# Altium footprint library KF-2.54 接线端子.PcbLib: 30 footprints (part 1 of 2)
Each footprint in its own frame and in the unit in brackets; x right, y up, seen from the top. Pads: shape width x height; smd on the part's side, far side on the other; paste and mask are expansions set on the pad; w line width, h text height; cw(c..) or ccw(c..) is an arc to the next point about the centre after c.
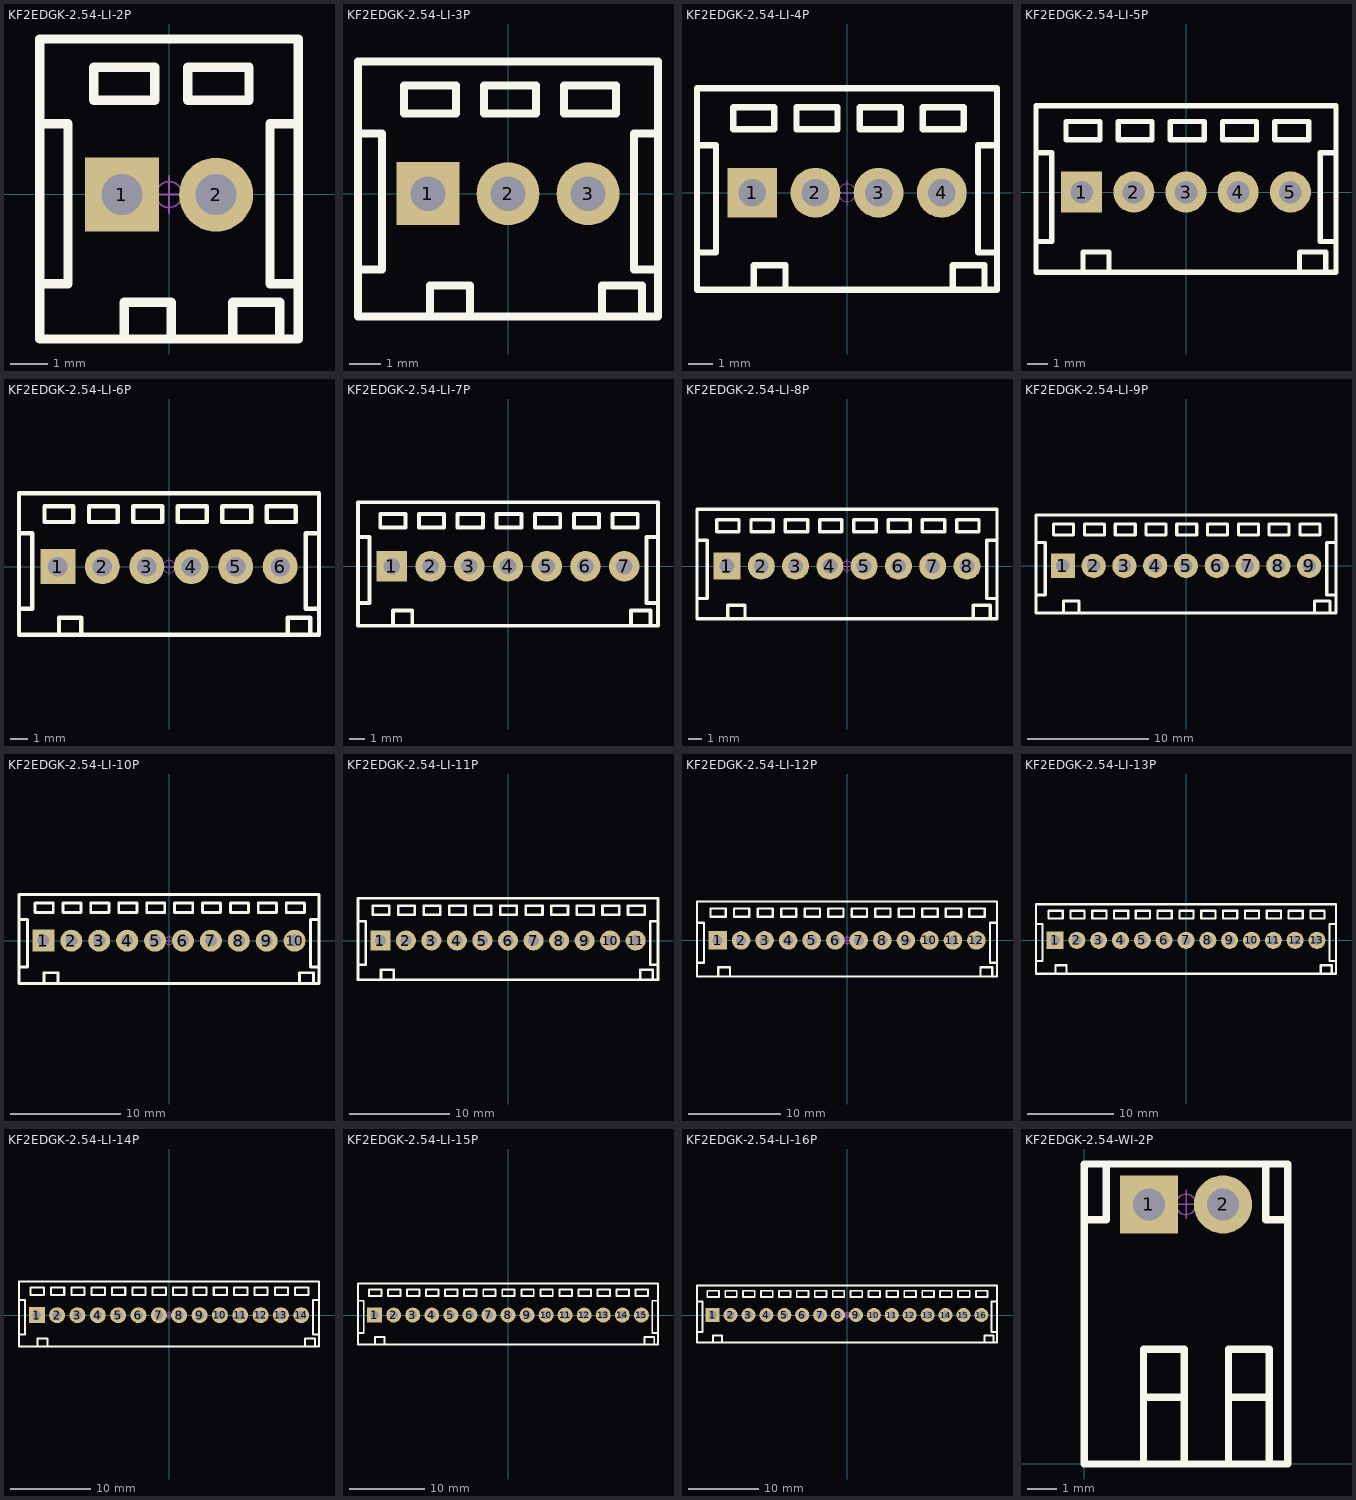
[diagram p0: the footprints below, top view; thin cyan lines are the x and y axes]

## KF2EDGK-2.54-LI-2P [mm] "长：6.93mm，宽：8.1mm，高：10.1mm"
pads (2):
  rect 2x2 hole 1.1: 1(-1.27,-0.009)
  round 2 hole 1.1: 2(1.27,-0.009)
Top Overlay:
  lines w0.254: -1.204,-3.848 -1.204,-2.921 0.066,-2.921 0.066,-3.848 ; 1.717,-3.848 1.717,-2.921 2.987,-2.921 2.987,-3.848 ; 3.49,-2.413 2.728,-2.413 2.728,1.905 3.49,1.905 ; -3.49,-2.413 -3.49,1.905 ; -3.49,-2.413 -2.728,-2.413 -2.728,1.905 -3.49,1.905 ; -3.49,-2.413 -3.49,-3.909 3.49,-3.909 3.49,1.905 ; -3.49,1.905 -3.49,4.191 3.49,4.191 3.49,1.905 ; -2.032,2.54 -2.032,3.429 -0.381,3.429 -0.381,2.54 -2.032,2.54 ; 0.508,2.54 2.159,2.54 2.159,3.429 0.508,3.429 0.508,2.54
Mechanical 15:
  circle w0.05: c0,-0.009 r0.35
  lines w0.05: -0.5,-0.009 0.5,-0.009 ; 0,-0.509 0,0.491
3D body: height 10.15, standoff -3.15, extent -3.49,-3.909 3.49,4.191

## KF2EDGK-2.54-LI-3P [mm] "长：9.52mm，宽：8.1mm，高：10.1mm"
pads (3):
  rect 2x2 hole 1.1: 1(-2.54,0)
  round 2 hole 1.1: 2(0,0) 3(2.54,0)
Top Overlay:
  lines w0.254: -2.474,-3.839 -2.474,-2.912 -1.204,-2.912 -1.204,-3.839 ; 2.987,-3.839 2.987,-2.912 4.257,-2.912 4.257,-3.839 ; 4.76,-2.404 3.998,-2.404 3.998,1.914 4.76,1.914 ; -4.76,-2.404 -4.76,1.914 ; -4.76,-2.404 -3.998,-2.404 -3.998,1.914 -4.76,1.914 ; -4.76,-2.404 -4.76,-3.9 4.76,-3.9 4.76,1.914 ; -4.76,1.914 -4.76,4.2 4.76,4.2 4.76,1.914 ; -3.302,2.549 -1.651,2.549 -1.651,3.438 -3.302,3.438 -3.302,2.549 ; -0.762,2.549 0.889,2.549 0.889,3.438 -0.762,3.438 -0.762,2.549 ; 1.778,2.549 3.429,2.549 3.429,3.438 1.778,3.438 1.778,2.549
Mechanical 15:
  circle w0.05: c0,0 r0.35
  lines w0.05: -0.5,0 0.5,0 ; 0,-0.5 0,0.5
3D body: height 10.15, standoff -3.15, extent -4.76,-3.9 4.76,4.2

## KF2EDGK-2.54-LI-4P [mm] "长：12.06mm，宽：8.1mm，高：10.1mm"
pads (4):
  rect 2x2 hole 1.1: 1(-3.81,0)
  round 2 hole 1.1: 2(-1.27,0) 3(1.27,0) 4(3.81,0)
Top Overlay:
  lines w0.254: -3.744,-3.839 -3.744,-2.912 -2.474,-2.912 -2.474,-3.839 ; 4.257,-3.839 4.257,-2.912 5.527,-2.912 5.527,-3.839 ; 6.03,-2.404 5.268,-2.404 5.268,1.914 6.03,1.914 ; -6.03,-2.404 -6.03,-3.9 6.03,-3.9 6.03,1.914 ; -6.03,-2.404 -5.268,-2.404 -5.268,1.914 -6.03,1.914 ; -6.03,-2.404 -6.03,1.914 ; -6.03,1.914 -6.03,4.2 6.03,4.2 6.03,1.914 ; -4.572,2.549 -2.921,2.549 -2.921,3.438 -4.572,3.438 -4.572,2.549 ; -2.032,2.549 -0.381,2.549 -0.381,3.438 -2.032,3.438 -2.032,2.549 ; 0.508,2.549 2.159,2.549 2.159,3.438 0.508,3.438 0.508,2.549 ; 3.048,2.549 4.699,2.549 4.699,3.438 3.048,3.438 3.048,2.549
Mechanical 15:
  circle w0.05: c0,0 r0.35
  lines w0.05: -0.5,0 0.5,0 ; 0,-0.5 0,0.5
3D body: height 10.15, standoff -3.15, extent -6.03,-3.9 6.03,4.2

## KF2EDGK-2.54-LI-5P [mm] "长：14.6mm，宽：8.1mm，高：10.1mm"
pads (5):
  rect 2x2 hole 1.1: 1(-5.08,0)
  round 2 hole 1.1: 2(-2.54,0) 3(0,0) 4(2.54,0) 5(5.08,0)
Top Overlay:
  lines w0.254: -5.014,-3.839 -5.014,-2.912 -3.744,-2.912 -3.744,-3.839 ; 5.527,-3.839 5.527,-2.912 6.797,-2.912 6.797,-3.839 ; 7.3,-2.404 6.538,-2.404 6.538,1.914 7.3,1.914 ; -7.3,-2.404 -7.3,-3.9 7.3,-3.9 7.3,1.914 ; -7.3,-2.404 -6.538,-2.404 -6.538,1.914 -7.3,1.914 ; -7.3,-2.404 -7.3,1.914 ; -7.3,1.914 -7.3,4.2 7.3,4.2 7.3,1.914 ; -5.842,2.549 -5.842,3.438 -4.191,3.438 -4.191,2.549 -5.842,2.549 ; -3.302,2.549 -3.302,3.438 -1.651,3.438 -1.651,2.549 -3.302,2.549 ; -0.762,2.549 -0.762,3.438 0.889,3.438 0.889,2.549 -0.762,2.549 ; 1.778,2.549 1.778,3.438 3.429,3.438 3.429,2.549 1.778,2.549 ; 4.318,2.549 5.969,2.549 5.969,3.438 4.318,3.438 4.318,2.549
Mechanical 15:
  circle w0.05: c0,0 r0.35
  lines w0.05: -0.5,0 0.5,0 ; 0,-0.5 0,0.5
3D body: height 10.15, standoff -3.15, extent -7.3,-3.9 7.3,4.2

## KF2EDGK-2.54-LI-6P [mm] "长：17.1mm，宽：8.1mm，高：10.1mm"
pads (6):
  rect 2x2 hole 1.1: 1(-6.35,0)
  round 2 hole 1.1: 2(-3.81,0) 3(-1.27,0) 4(1.27,0) 5(3.81,0) 6(6.35,0)
Top Overlay:
  lines w0.254: -6.284,-3.839 -6.284,-2.912 -5.014,-2.912 -5.014,-3.839 ; 6.797,-3.839 6.797,-2.912 8.067,-2.912 8.067,-3.839 ; 8.57,-2.404 7.808,-2.404 7.808,1.914 8.57,1.914 ; -8.57,-2.404 -8.57,-3.9 8.57,-3.9 8.57,1.914 ; -8.57,-2.404 -7.808,-2.404 -7.808,1.914 -8.57,1.914 ; -8.57,-2.404 -8.57,1.914 ; -8.57,1.914 -8.57,4.2 8.57,4.2 8.57,1.914 ; -7.112,2.549 -5.461,2.549 -5.461,3.438 -7.112,3.438 -7.112,2.549 ; -4.572,2.549 -2.921,2.549 -2.921,3.438 -4.572,3.438 -4.572,2.549 ; -2.032,2.549 -0.381,2.549 -0.381,3.438 -2.032,3.438 -2.032,2.549 ; 0.508,2.549 2.159,2.549 2.159,3.438 0.508,3.438 0.508,2.549 ; 3.048,2.549 3.048,3.438 4.699,3.438 4.699,2.549 3.048,2.549 ; 5.588,2.549 5.588,3.438 7.239,3.438 7.239,2.549 5.588,2.549
Mechanical 15:
  circle w0.05: c0,0 r0.35
  lines w0.05: -0.5,0 0.5,0 ; 0,-0.5 0,0.5
3D body: height 10.15, standoff -3.15, extent -8.57,-3.9 8.57,4.2

## KF2EDGK-2.54-LI-7P [mm] "长：22.22mm，宽：8.1mm，高：10.1mm"
pads (7):
  rect 2x2 hole 1.1: 1(-7.62,0)
  round 2 hole 1.1: 2(-5.08,0) 3(-2.54,0) 4(0,0) 5(2.54,0) 6(5.08,0) 7(7.62,0)
Top Overlay:
  lines w0.254: -7.554,-3.839 -7.554,-2.912 -6.284,-2.912 -6.284,-3.839 ; 8.067,-3.839 8.067,-2.912 9.337,-2.912 9.337,-3.839 ; 9.84,-2.404 9.078,-2.404 9.078,1.914 9.84,1.914 ; -9.84,-2.404 -9.84,1.914 ; -9.84,-2.404 -9.078,-2.404 -9.078,1.914 -9.84,1.914 ; -9.84,-2.404 -9.84,-3.9 9.84,-3.9 9.84,1.914 ; -9.84,1.914 -9.84,4.2 9.84,4.2 9.84,1.914 ; -8.382,2.549 -6.731,2.549 -6.731,3.438 -8.382,3.438 -8.382,2.549 ; -5.842,2.549 -4.191,2.549 -4.191,3.438 -5.842,3.438 -5.842,2.549 ; -3.302,2.549 -1.651,2.549 -1.651,3.438 -3.302,3.438 -3.302,2.549 ; -0.762,2.549 0.889,2.549 0.889,3.438 -0.762,3.438 -0.762,2.549 ; 1.778,2.549 1.778,3.438 3.429,3.438 3.429,2.549 1.778,2.549 ; 4.318,2.549 4.318,3.438 5.969,3.438 5.969,2.549 4.318,2.549 ; 6.858,2.549 6.858,3.438 8.509,3.438 8.509,2.549 6.858,2.549
Mechanical 15:
  circle w0.05: c0,0 r0.35
  lines w0.05: -0.5,0 0.5,0 ; 0,-0.5 0,0.5
3D body: height 10.15, standoff -3.15, extent -9.84,-3.9 9.84,4.2

## KF2EDGK-2.54-LI-8P [mm] "长：22.22mm，宽：8.1mm，高：10.1mm"
pads (8):
  rect 2x2 hole 1.1: 1(-8.89,0)
  round 2 hole 1.1: 2(-6.35,0) 3(-3.81,0) 4(-1.27,0) 5(1.27,0) 6(3.81,0) 7(6.35,0) 8(8.89,0)
Top Overlay:
  lines w0.254: -8.824,-3.839 -8.824,-2.912 -7.554,-2.912 -7.554,-3.839 ; 9.337,-3.839 9.337,-2.912 10.607,-2.912 10.607,-3.839 ; 11.11,-2.404 10.348,-2.404 10.348,1.914 11.11,1.914 ; -11.11,-2.404 -11.11,1.914 ; -11.11,-2.404 -10.348,-2.404 -10.348,1.914 -11.11,1.914 ; -11.11,-2.404 -11.11,-3.9 11.11,-3.9 11.11,1.914 ; -11.11,1.914 -11.11,4.2 11.11,4.2 11.11,1.914 ; -9.652,2.549 -8.001,2.549 -8.001,3.438 -9.652,3.438 -9.652,2.549 ; -7.112,2.549 -5.461,2.549 -5.461,3.438 -7.112,3.438 -7.112,2.549 ; -4.572,2.549 -2.921,2.549 -2.921,3.438 -4.572,3.438 -4.572,2.549 ; -2.032,2.549 -0.381,2.549 -0.381,3.438 -2.032,3.438 -2.032,2.549 ; 0.508,2.549 0.508,3.438 2.159,3.438 2.159,2.549 0.508,2.549 ; 3.048,2.549 4.699,2.549 4.699,3.438 3.048,3.438 3.048,2.549 ; 5.588,2.549 7.239,2.549 7.239,3.438 5.588,3.438 5.588,2.549 ; 8.128,2.549 9.779,2.549 9.779,3.438 8.128,3.438 8.128,2.549
Mechanical 15:
  circle w0.05: c0,0 r0.35
  lines w0.05: -0.5,0 0.5,0 ; 0,-0.5 0,0.5
3D body: height 10.15, standoff -3.15, extent -11.11,-3.9 11.11,4.2

## KF2EDGK-2.54-LI-9P [mm] "长：27.76mm，宽：8.1mm，高：10.1mm"
pads (9):
  rect 2x2 hole 1.1: 1(-10.16,0)
  round 2 hole 1.1: 2(-7.62,0) 3(-5.08,0) 4(-2.54,0) 5(0,0) 6(2.54,0) 7(5.08,0) 8(7.62,0) 9(10.16,0)
Top Overlay:
  lines w0.254: -10.094,-3.839 -10.094,-2.912 -8.824,-2.912 -8.824,-3.839 ; 10.607,-3.839 10.607,-2.912 11.877,-2.912 11.877,-3.839 ; 12.38,-2.404 11.618,-2.404 11.618,1.914 12.38,1.914 ; -12.38,-2.404 -12.38,-3.9 12.38,-3.9 12.38,1.914 ; -12.38,-2.404 -11.618,-2.404 -11.618,1.914 -12.38,1.914 ; -12.38,-2.404 -12.38,1.914 ; -12.38,1.914 -12.38,4.2 12.38,4.2 12.38,1.914 ; -10.922,2.549 -10.922,3.438 -9.271,3.438 -9.271,2.549 -10.922,2.549 ; -8.382,2.549 -8.382,3.438 -6.731,3.438 -6.731,2.549 -8.382,2.549 ; -5.842,2.549 -5.842,3.438 -4.191,3.438 -4.191,2.549 -5.842,2.549 ; -3.302,2.549 -3.302,3.438 -1.651,3.438 -1.651,2.549 -3.302,2.549 ; -0.762,2.549 0.889,2.549 0.889,3.438 -0.762,3.438 -0.762,2.549 ; 1.778,2.549 3.429,2.549 3.429,3.438 1.778,3.438 1.778,2.549 ; 4.318,2.549 5.969,2.549 5.969,3.438 4.318,3.438 4.318,2.549 ; 6.858,2.549 8.509,2.549 8.509,3.438 6.858,3.438 6.858,2.549 ; 9.398,2.549 11.049,2.549 11.049,3.438 9.398,3.438 9.398,2.549
Mechanical 15:
  circle w0.05: c0,0 r0.35
  lines w0.05: -0.5,0 0.5,0 ; 0,-0.5 0,0.5
3D body: height 10.15, standoff -3.15, extent -12.38,-3.9 12.38,4.2

## KF2EDGK-2.54-LI-10P [mm] "长：27.3mm，宽：8.1mm，高：10.1mm"
pads (10):
  rect 2x2 hole 1.1: 1(-11.43,0)
  round 2 hole 1.1: 2(-8.89,0) 3(-6.35,0) 4(-3.81,0) 5(-1.27,0) 6(1.27,0) 7(3.81,0) 8(6.35,0) 9(8.89,0) 10(11.43,0)
Top Overlay:
  lines w0.254: -11.364,-3.839 -11.364,-2.912 -10.094,-2.912 -10.094,-3.839 ; 11.877,-3.839 11.877,-2.912 13.147,-2.912 13.147,-3.839 ; 13.65,-2.404 12.888,-2.404 12.888,1.914 13.65,1.914 ; -13.65,-2.404 -13.65,-3.9 13.65,-3.9 13.65,1.914 ; -13.65,-2.404 -12.888,-2.404 -12.888,1.914 -13.65,1.914 ; -13.65,-2.404 -13.65,1.914 ; -13.65,1.914 -13.65,4.2 13.65,4.2 13.65,1.914 ; -12.192,2.549 -12.192,3.438 -10.541,3.438 -10.541,2.549 -12.192,2.549 ; -9.652,2.549 -9.652,3.438 -8.001,3.438 -8.001,2.549 -9.652,2.549 ; -7.112,2.549 -7.112,3.438 -5.461,3.438 -5.461,2.549 -7.112,2.549 ; -4.572,2.549 -4.572,3.438 -2.921,3.438 -2.921,2.549 -4.572,2.549 ; -2.032,2.549 -0.381,2.549 -0.381,3.438 -2.032,3.438 -2.032,2.549 ; 0.508,2.549 0.508,3.438 2.159,3.438 2.159,2.549 0.508,2.549 ; 3.048,2.549 3.048,3.438 4.699,3.438 4.699,2.549 3.048,2.549 ; 5.588,2.549 5.588,3.438 7.239,3.438 7.239,2.549 5.588,2.549 ; 8.128,2.549 8.128,3.438 9.779,3.438 9.779,2.549 8.128,2.549 ; 10.668,2.549 12.319,2.549 12.319,3.438 10.668,3.438 10.668,2.549
Mechanical 15:
  circle w0.05: c0,0 r0.35
  lines w0.05: -0.5,0 0.5,0 ; 0,-0.5 0,0.5
3D body: height 10.15, standoff -3.15, extent -13.65,-3.9 13.65,4.2

## KF2EDGK-2.54-LI-11P [mm] "长：29.84mm，宽：8.1mm，高：10.1mm"
pads (11):
  rect 2x2 hole 1.1: 1(-12.7,0)
  round 2 hole 1.1: 2(-10.16,0) 3(-7.62,0) 4(-5.08,0) 5(-2.54,0) 6(0,0) 7(2.54,0) 8(5.08,0) 9(7.62,0) 10(10.16,0) 11(12.7,0)
Top Overlay:
  lines w0.254: -12.634,-3.839 -12.634,-2.912 -11.364,-2.912 -11.364,-3.839 ; 13.147,-3.839 13.147,-2.912 14.417,-2.912 14.417,-3.839 ; 14.92,-2.404 14.158,-2.404 14.158,1.914 14.92,1.914 ; -14.92,-2.404 -14.92,-3.9 14.92,-3.9 14.92,1.914 ; -14.92,-2.404 -14.158,-2.404 -14.158,1.914 -14.92,1.914 ; -14.92,-2.404 -14.92,1.914 ; -14.92,1.914 -14.92,4.2 14.92,4.2 14.92,1.914 ; -13.462,2.549 -11.811,2.549 -11.811,3.438 -13.462,3.438 -13.462,2.549 ; -10.922,2.549 -9.271,2.549 -9.271,3.438 -10.922,3.438 -10.922,2.549 ; -8.382,2.549 -6.731,2.549 -6.731,3.438 -8.382,3.438 -8.382,2.549 ; -5.842,2.549 -4.191,2.549 -4.191,3.438 -5.842,3.438 -5.842,2.549 ; -3.302,2.549 -3.302,3.438 -1.651,3.438 -1.651,2.549 -3.302,2.549 ; -0.762,2.549 0.889,2.549 0.889,3.438 -0.762,3.438 -0.762,2.549 ; 1.778,2.549 3.429,2.549 3.429,3.438 1.778,3.438 1.778,2.549 ; 4.318,2.549 5.969,2.549 5.969,3.438 4.318,3.438 4.318,2.549 ; 6.858,2.549 8.509,2.549 8.509,3.438 6.858,3.438 6.858,2.549 ; 9.398,2.549 9.398,3.438 11.049,3.438 11.049,2.549 9.398,2.549 ; 11.938,2.549 11.938,3.438 13.589,3.438 13.589,2.549 11.938,2.549
Mechanical 15:
  circle w0.05: c0,0 r0.35
  lines w0.05: -0.5,0 0.5,0 ; 0,-0.5 0,0.5
3D body: height 10.15, standoff -3.15, extent -14.92,-3.9 14.92,4.2

## KF2EDGK-2.54-LI-12P [mm] "长：32.38mm，宽：8.1mm，高：10.1mm"
pads (12):
  rect 2x2 hole 1.1: 1(-13.97,0)
  round 2 hole 1.1: 2(-11.43,0) 3(-8.89,0) 4(-6.35,0) 5(-3.81,0) 6(-1.27,0) 7(1.27,0) 8(3.81,0) 9(6.35,0) 10(8.89,0) 11(11.43,0) 12(13.97,0)
Top Overlay:
  lines w0.254: -13.904,-3.839 -13.904,-2.912 -12.634,-2.912 -12.634,-3.839 ; 14.417,-3.839 14.417,-2.912 15.687,-2.912 15.687,-3.839 ; 16.19,-2.404 15.428,-2.404 15.428,1.914 16.19,1.914 ; -16.19,-2.404 -16.19,1.914 ; -16.19,-2.404 -15.428,-2.404 -15.428,1.914 -16.19,1.914 ; -16.19,-2.404 -16.19,-3.9 16.19,-3.9 16.19,1.914 ; -16.19,1.914 -16.19,4.2 16.19,4.2 16.19,1.914 ; -14.732,2.549 -13.081,2.549 -13.081,3.438 -14.732,3.438 -14.732,2.549 ; -12.192,2.549 -10.541,2.549 -10.541,3.438 -12.192,3.438 -12.192,2.549 ; -9.652,2.549 -8.001,2.549 -8.001,3.438 -9.652,3.438 -9.652,2.549 ; -7.112,2.549 -5.461,2.549 -5.461,3.438 -7.112,3.438 -7.112,2.549 ; -4.572,2.549 -4.572,3.438 -2.921,3.438 -2.921,2.549 -4.572,2.549 ; -2.032,2.549 -0.381,2.549 -0.381,3.438 -2.032,3.438 -2.032,2.549 ; 0.508,2.549 2.159,2.549 2.159,3.438 0.508,3.438 0.508,2.549 ; 3.048,2.549 4.699,2.549 4.699,3.438 3.048,3.438 3.048,2.549 ; 5.588,2.549 7.239,2.549 7.239,3.438 5.588,3.438 5.588,2.549 ; 8.128,2.549 8.128,3.438 9.779,3.438 9.779,2.549 8.128,2.549 ; 10.668,2.549 10.668,3.438 12.319,3.438 12.319,2.549 10.668,2.549 ; 13.208,2.549 13.208,3.438 14.859,3.438 14.859,2.549 13.208,2.549
Mechanical 15:
  circle w0.05: c0,0 r0.35
  lines w0.05: -0.5,0 0.5,0 ; 0,-0.5 0,0.5
3D body: height 10.15, standoff -3.15, extent -16.19,-3.9 16.19,4.2

## KF2EDGK-2.54-LI-13P [mm] "长：34.92mm，宽：8.1mm，高：10.1mm"
pads (13):
  rect 2x2 hole 1.1: 1(-15.24,0)
  round 2 hole 1.1: 2(-12.7,0) 3(-10.16,0) 4(-7.62,0) 5(-5.08,0) 6(-2.54,0) 7(0,0) 8(2.54,0) 9(5.08,0) 10(7.62,0) 11(10.16,0) 12(12.7,0) 13(15.24,0)
Top Overlay:
  lines w0.254: -15.174,-3.839 -15.174,-2.912 -13.904,-2.912 -13.904,-3.839 ; 15.687,-3.839 15.687,-2.912 16.957,-2.912 16.957,-3.839 ; 17.46,-2.404 16.698,-2.404 16.698,1.914 17.46,1.914 ; -17.46,-2.404 -17.46,1.914 ; -17.46,-2.404 -16.698,-2.404 -16.698,1.914 -17.46,1.914 ; -17.46,-2.404 -17.46,-3.9 17.46,-3.9 17.46,1.914 ; -17.46,1.914 -17.46,4.2 17.46,4.2 17.46,1.914 ; -16.002,2.549 -14.351,2.549 -14.351,3.438 -16.002,3.438 -16.002,2.549 ; -13.462,2.549 -11.811,2.549 -11.811,3.438 -13.462,3.438 -13.462,2.549 ; -10.922,2.549 -9.271,2.549 -9.271,3.438 -10.922,3.438 -10.922,2.549 ; -8.382,2.549 -6.731,2.549 -6.731,3.438 -8.382,3.438 -8.382,2.549 ; -5.842,2.549 -5.842,3.438 -4.191,3.438 -4.191,2.549 -5.842,2.549 ; -3.302,2.549 -1.651,2.549 -1.651,3.438 -3.302,3.438 -3.302,2.549 ; -0.762,2.549 0.889,2.549 0.889,3.438 -0.762,3.438 -0.762,2.549 ; 1.778,2.549 3.429,2.549 3.429,3.438 1.778,3.438 1.778,2.549 ; 4.318,2.549 5.969,2.549 5.969,3.438 4.318,3.438 4.318,2.549 ; 6.858,2.549 6.858,3.438 8.509,3.438 8.509,2.549 6.858,2.549 ; 9.398,2.549 9.398,3.438 11.049,3.438 11.049,2.549 9.398,2.549 ; 11.938,2.549 11.938,3.438 13.589,3.438 13.589,2.549 11.938,2.549 ; 14.478,2.549 14.478,3.438 16.129,3.438 16.129,2.549 14.478,2.549
Mechanical 15:
  circle w0.05: c0,0 r0.35
  lines w0.05: -0.5,0 0.5,0 ; 0,-0.5 0,0.5
3D body: height 10.15, standoff -3.15, extent -17.46,-3.9 17.46,4.2

## KF2EDGK-2.54-LI-14P [mm] "长：37.46mm，宽：8.1mm，高：10.1mm"
pads (14):
  rect 2x2 hole 1.1: 1(-16.51,0)
  round 2 hole 1.1: 2(-13.97,0) 3(-11.43,0) 4(-8.89,0) 5(-6.35,0) 6(-3.81,0) 7(-1.27,0) 8(1.27,0) 9(3.81,0) 10(6.35,0) 11(8.89,0) 12(11.43,0) 13(13.97,0) 14(16.51,0)
Top Overlay:
  lines w0.254: -16.444,-3.839 -16.444,-2.912 -15.174,-2.912 -15.174,-3.839 ; 16.957,-3.839 16.957,-2.912 18.227,-2.912 18.227,-3.839 ; 18.73,-2.404 17.968,-2.404 17.968,1.914 18.73,1.914 ; -18.73,-2.404 -18.73,-3.9 18.73,-3.9 18.73,1.914 ; -18.73,-2.404 -17.968,-2.404 -17.968,1.914 -18.73,1.914 ; -18.73,-2.404 -18.73,1.914 ; -18.73,1.914 -18.73,4.2 18.73,4.2 18.73,1.914 ; -17.272,2.549 -17.272,3.438 -15.621,3.438 -15.621,2.549 -17.272,2.549 ; -14.732,2.549 -14.732,3.438 -13.081,3.438 -13.081,2.549 -14.732,2.549 ; -12.192,2.549 -12.192,3.438 -10.541,3.438 -10.541,2.549 -12.192,2.549 ; -9.652,2.549 -9.652,3.438 -8.001,3.438 -8.001,2.549 -9.652,2.549 ; -7.112,2.549 -5.461,2.549 -5.461,3.438 -7.112,3.438 -7.112,2.549 ; -4.572,2.549 -4.572,3.438 -2.921,3.438 -2.921,2.549 -4.572,2.549 ; -2.032,2.549 -2.032,3.438 -0.381,3.438 -0.381,2.549 -2.032,2.549 ; 0.508,2.549 0.508,3.438 2.159,3.438 2.159,2.549 0.508,2.549 ; 3.048,2.549 3.048,3.438 4.699,3.438 4.699,2.549 3.048,2.549 ; 5.588,2.549 7.239,2.549 7.239,3.438 5.588,3.438 5.588,2.549 ; 8.128,2.549 9.779,2.549 9.779,3.438 8.128,3.438 8.128,2.549 ; 10.668,2.549 12.319,2.549 12.319,3.438 10.668,3.438 10.668,2.549 ; 13.208,2.549 14.859,2.549 14.859,3.438 13.208,3.438 13.208,2.549 ; 15.748,2.549 17.399,2.549 17.399,3.438 15.748,3.438 15.748,2.549
Mechanical 15:
  circle w0.05: c0,0 r0.35
  lines w0.05: -0.5,0 0.5,0 ; 0,-0.5 0,0.5
3D body: height 10.15, standoff -3.15, extent -18.73,-3.9 18.73,4.2

## KF2EDGK-2.54-LI-15P [mm] "长：40mm，宽：8.1mm，高：10.1mm"
pads (15):
  rect 2x2 hole 1.1: 1(-17.78,0)
  round 2 hole 1.1: 2(-15.24,0) 3(-12.7,0) 4(-10.16,0) 5(-7.62,0) 6(-5.08,0) 7(-2.54,0) 8(0,0) 9(2.54,0) 10(5.08,0) 11(7.62,0) 12(10.16,0) 13(12.7,0) 14(15.24,0) 15(17.78,0)
Top Overlay:
  lines w0.254: -17.714,-3.839 -17.714,-2.912 -16.444,-2.912 -16.444,-3.839 ; 18.227,-3.839 18.227,-2.912 19.497,-2.912 19.497,-3.839 ; 20,-2.404 19.238,-2.404 19.238,1.914 20,1.914 ; -20,-2.404 -20,-3.9 20,-3.9 20,1.914 ; -20,-2.404 -19.238,-2.404 -19.238,1.914 -20,1.914 ; -20,-2.404 -20,1.914 ; -20,1.914 -20,4.2 20,4.2 20,1.914 ; -18.542,2.549 -16.891,2.549 -16.891,3.438 -18.542,3.438 -18.542,2.549 ; -16.002,2.549 -14.351,2.549 -14.351,3.438 -16.002,3.438 -16.002,2.549 ; -13.462,2.549 -11.811,2.549 -11.811,3.438 -13.462,3.438 -13.462,2.549 ; -10.922,2.549 -9.271,2.549 -9.271,3.438 -10.922,3.438 -10.922,2.549 ; -8.382,2.549 -8.382,3.438 -6.731,3.438 -6.731,2.549 -8.382,2.549 ; -5.842,2.549 -4.191,2.549 -4.191,3.438 -5.842,3.438 -5.842,2.549 ; -3.302,2.549 -1.651,2.549 -1.651,3.438 -3.302,3.438 -3.302,2.549 ; -0.762,2.549 0.889,2.549 0.889,3.438 -0.762,3.438 -0.762,2.549 ; 1.778,2.549 3.429,2.549 3.429,3.438 1.778,3.438 1.778,2.549 ; 4.318,2.549 4.318,3.438 5.969,3.438 5.969,2.549 4.318,2.549 ; 6.858,2.549 8.509,2.549 8.509,3.438 6.858,3.438 6.858,2.549 ; 9.398,2.549 11.049,2.549 11.049,3.438 9.398,3.438 9.398,2.549 ; 11.938,2.549 13.589,2.549 13.589,3.438 11.938,3.438 11.938,2.549 ; 14.478,2.549 16.129,2.549 16.129,3.438 14.478,3.438 14.478,2.549 ; 17.018,2.549 17.018,3.438 18.669,3.438 18.669,2.549 17.018,2.549
Mechanical 15:
  circle w0.05: c0,0 r0.35
  lines w0.05: -0.5,0 0.5,0 ; 0,-0.5 0,0.5
3D body: height 10.15, standoff -3.15, extent -20,-3.9 20,4.2

## KF2EDGK-2.54-LI-16P [mm] "长：42.54mm，宽：8.1mm，高：10.1mm"
pads (16):
  rect 2x2 hole 1.1: 1(-19.05,0)
  round 2 hole 1.1: 2(-16.51,0) 3(-13.97,0) 4(-11.43,0) 5(-8.89,0) 6(-6.35,0) 7(-3.81,0) 8(-1.27,0) 9(1.27,0) 10(3.81,0) 11(6.35,0) 12(8.89,0) 13(11.43,0) 14(13.97,0) 15(16.51,0) 16(19.05,0)
Top Overlay:
  lines w0.254: -18.984,-3.839 -18.984,-2.912 -17.714,-2.912 -17.714,-3.839 ; 19.497,-3.839 19.497,-2.912 20.767,-2.912 20.767,-3.839 ; 21.27,-2.404 20.508,-2.404 20.508,1.914 21.27,1.914 ; -21.27,-2.404 -21.27,1.914 ; -21.27,-2.404 -20.508,-2.404 -20.508,1.914 -21.27,1.914 ; -21.27,-2.404 -21.27,-3.9 21.27,-3.9 21.27,1.914 ; -21.27,1.914 -21.27,4.2 21.27,4.2 21.27,1.914 ; -19.812,2.549 -19.812,3.438 -18.161,3.438 -18.161,2.549 -19.812,2.549 ; -17.272,2.549 -17.272,3.438 -15.621,3.438 -15.621,2.549 -17.272,2.549 ; -14.732,2.549 -14.732,3.438 -13.081,3.438 -13.081,2.549 -14.732,2.549 ; -12.192,2.549 -12.192,3.438 -10.541,3.438 -10.541,2.549 -12.192,2.549 ; -9.652,2.549 -8.001,2.549 -8.001,3.438 -9.652,3.438 -9.652,2.549 ; -7.112,2.549 -7.112,3.438 -5.461,3.438 -5.461,2.549 -7.112,2.549 ; -4.572,2.549 -4.572,3.438 -2.921,3.438 -2.921,2.549 -4.572,2.549 ; -2.032,2.549 -2.032,3.438 -0.381,3.438 -0.381,2.549 -2.032,2.549 ; 0.508,2.549 0.508,3.438 2.159,3.438 2.159,2.549 0.508,2.549 ; 3.048,2.549 4.699,2.549 4.699,3.438 3.048,3.438 3.048,2.549 ; 5.588,2.549 5.588,3.438 7.239,3.438 7.239,2.549 5.588,2.549 ; 8.128,2.549 8.128,3.438 9.779,3.438 9.779,2.549 8.128,2.549 ; 10.668,2.549 10.668,3.438 12.319,3.438 12.319,2.549 10.668,2.549 ; 13.208,2.549 13.208,3.438 14.859,3.438 14.859,2.549 13.208,2.549 ; 15.748,2.549 17.399,2.549 17.399,3.438 15.748,3.438 15.748,2.549 ; 18.288,2.549 18.288,3.438 19.939,3.438 19.939,2.549 18.288,2.549
Mechanical 15:
  circle w0.05: c0,0 r0.35
  lines w0.05: -0.5,0 0.5,0 ; 0,-0.5 0,0.5
3D body: height 10.15, standoff -3.15, extent -21.27,-3.9 21.27,4.2

## KF2EDGK-2.54-WI-2P [mm] "长：6.93mm，宽：10.1mm，高：8.1mm"
pads (2):
  rect 2x2 hole 1.1: 1(2.22,8.898)
  round 2 hole 1.1: 2(4.76,8.898)
Top Overlay:
  lines w0.254: 0,8.38 0.757,8.38 0.757,10.285 ; 2.032,-0.002 2.032,3.935 3.429,3.935 3.429,-0.002 ; 2.032,2.284 3.429,2.284 ; 4.948,-0.002 4.948,3.935 6.345,3.935 6.345,-0.002 ; 4.948,2.284 6.345,2.284 ; 6.223,10.285 6.223,8.38 6.98,8.38 ; 0,-0.002 0,10.285 6.98,10.285 6.98,-0.002 0,-0.002
Mechanical 15:
  circle w0.05: c3.49,8.9 r0.35
  lines w0.05: 2.99,8.9 3.99,8.9 ; 3.49,8.4 3.49,9.4
3D body: height 8.15, standoff -3.25, extent 0,0 6.98,10.1